# EAGLE library part 74LVC125A (library custom)
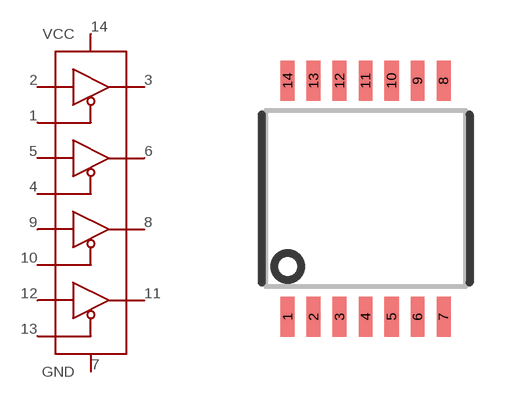
[diagram p69: symbol with the pads of 14-TSSOP; footprint 14-TSSOP]

Designator prefix U

## 74LVC125A  [14-TSSOP]
1  1_1OEN
2  2_1A
3  3_1Y
4  4_2OEN
5  5_2A
6  6_2Y
7  GND
8  8_3Y
9  9_3A
10  10_3OEN
11  11_4Y
12  12_4A
13  13_4OEN
14  VCC

## Footprint 14-TSSOP (pad centres in mm)
smd 0.35 x 1: 1 -1.95,-2.95; 2 -1.3,-2.95; 3 -0.65,-2.95; 4 0,-2.95; 5 0.65,-2.95; 6 1.3,-2.95; 7 1.95,-2.95; 8 1.95,2.95; 9 1.3,2.95; 10 0.65,2.95; 11 0,2.95; 12 -0.65,2.95; 13 -1.3,2.95; 14 -1.95,2.95